# Altium schematic symbol library Ferrite,1k@100MHz,0402.Schlib: 1 symbol
Pins are listed as number, name and electrical type; pins without a type are passive.

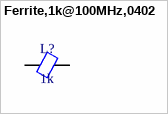
[diagram p0: symbol Ferrite,1k@100MHz,0402]

## Ferrite,1k@100MHz,0402
designator L?, comment 1k
1 kOhms @ 100MHz 1 Signal Line Ferrite Bead 0402 (1005 Metric) 250mA 1.1Ohm
pins: 1, 2